# EAGLE library part ESTOP_RADIO (library board_outline)
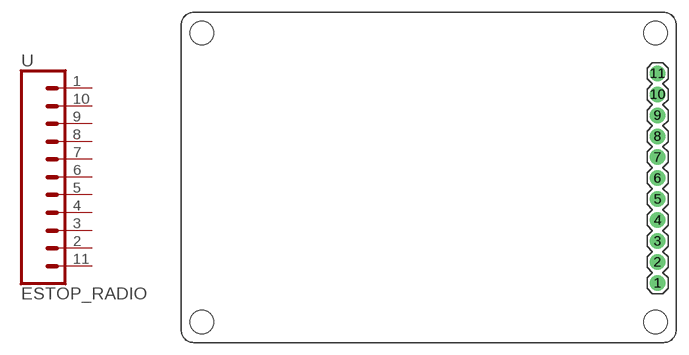
[diagram p0: symbol with the pads of RADIO_V1.3; footprint RADIO_V1.3]

Designator prefix -

## ESTOP_RADIO  [RADIO_V1.3]
1  GND  pas
2  RST  pas
3  D1  pas
4  D2  pas
5  D3  pas
6  D4  pas
7  D5  pas
8  D6  pas
9  D7  pas
10  5V  pas
11  GND  pas

## Footprint RADIO_V1.3 (pad centres in mm)
Plated Through Hole -11 Pin Specifications: Pin count:11 Pin pitch:0.1" Example device(s): CONN_11
drill 1.016 pad 1.88: 1 27.76,-11.79; 2 27.76,-9.25; 3 27.76,-6.71; 4 27.76,-4.17; 5 27.76,-1.63; 6 27.76,0.91; 7 27.76,3.45; 8 27.76,5.99; 9 27.76,8.53; 10 27.76,11.07; 11 27.76,13.61
hole 2.85 at -27.5,-16.5
hole 2.85 at 27.5,-16.5
hole 2.85 at -27.5,18.5
hole 2.85 at 27.5,18.5